# Altium footprint library PcbLib1.PcbLib: 329 footprints (part 6 of 21)
Each footprint in its own frame and in the unit in brackets; x right, y up, seen from the top. Pads: shape width x height; smd on the part's side, far side on the other; paste and mask are expansions set on the pad; w line width, h text height; cw(c..) or ccw(c..) is an arc to the next point about the centre after c.
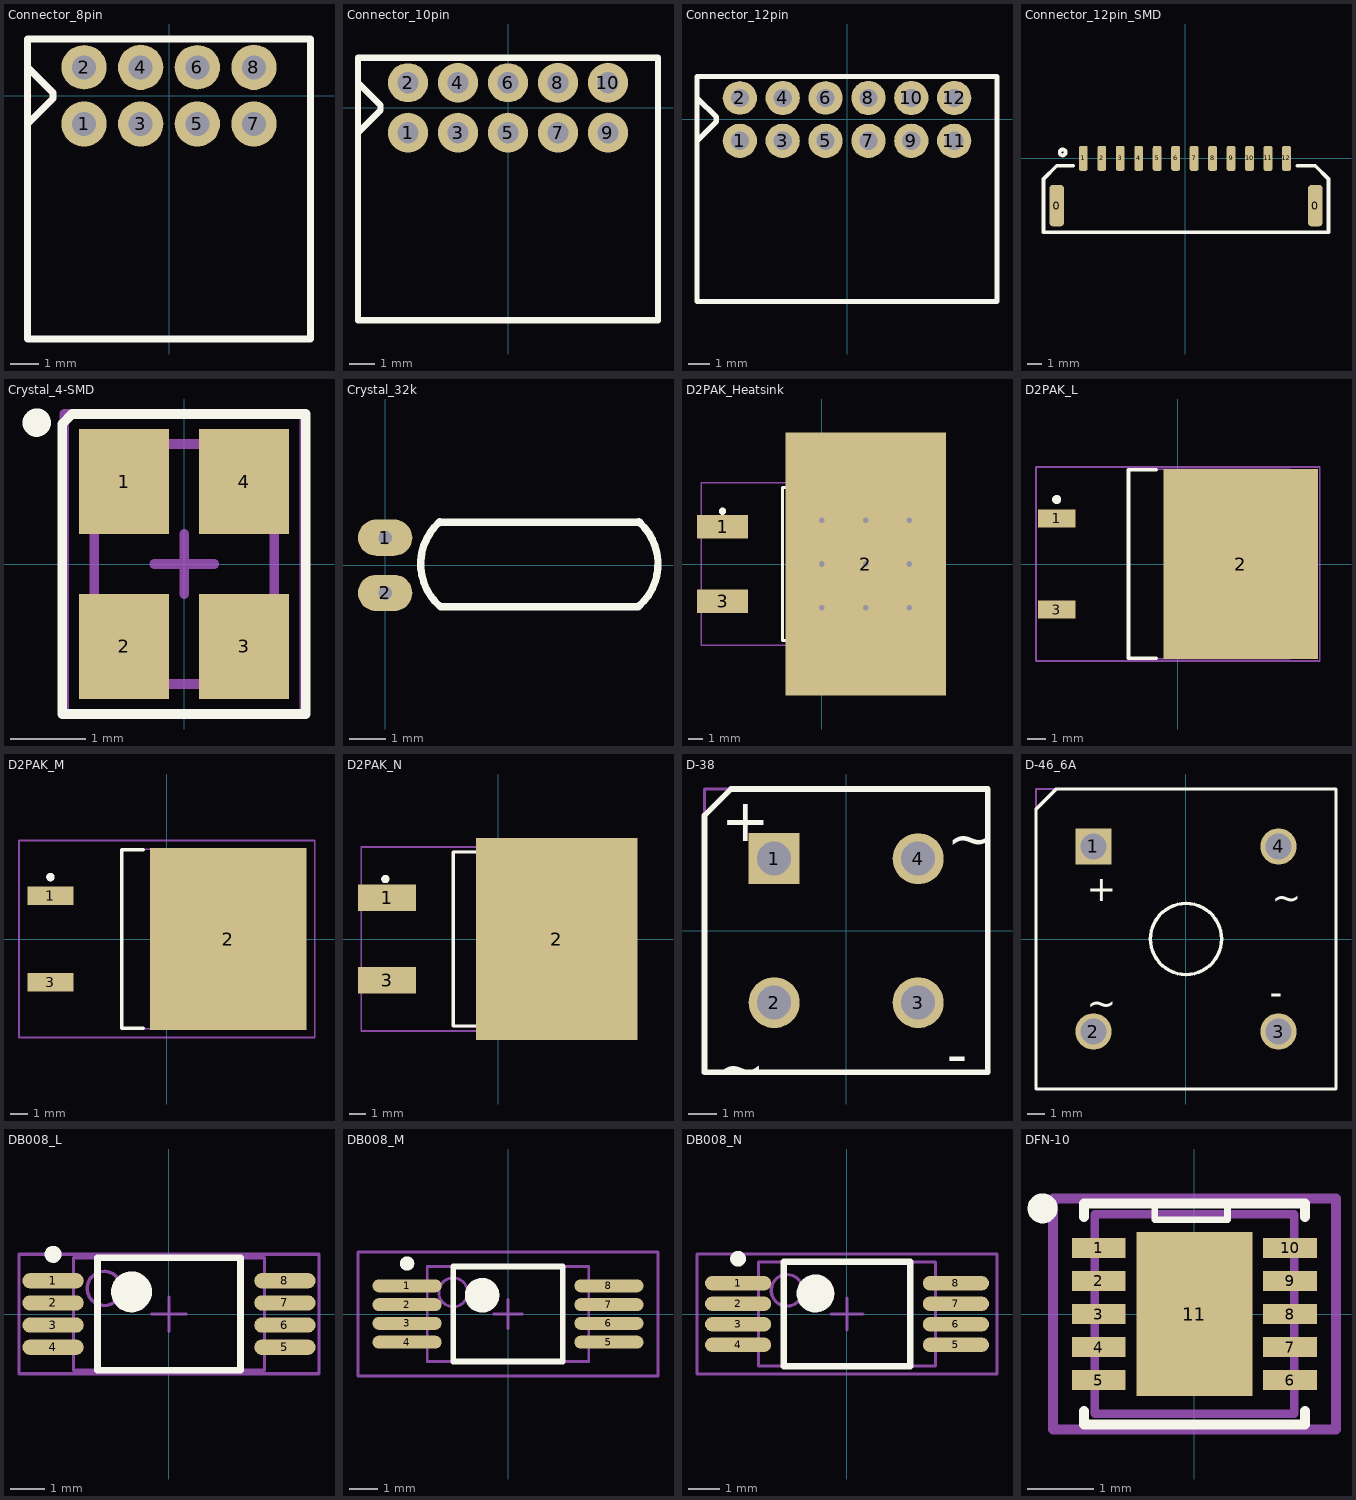
[diagram p5: the footprints below, top view; thin cyan lines are the x and y axes]

## Connector_8pin [mm] "CONN HEADER 18POS 2MM RT ANG TIN"
height 5
pads (8):
  round 1.6 hole 0.85: 1(-3,-1) 3(-1,-1) 4(-1,1) 5(1,-1) 7(3,-1) 8(3,1)
  oval 1.6x1.56 hole 0.85: 2(-3,1) 6(1,1)
Top Overlay:
  lines w0.254: -5,-1 -4.1,-0.1 -4.1,0.1 -4.95,0.95 ; -5,-8.6 5,-8.6 5,2 -5,2 -5,-8.6
3D body "DF11-8DP-2DS.STEP": height 5.08, standoff -2.92, extent -5.016,-8.737 5.016,1.3

## Connector_10pin [mm] "CONN HEADER 10POS 2MM RT ANG TIN"
height 5
pads (10):
  round 1.6 hole 0.85: 1(-4,-1) 3(-2,-1) 4(-2,1) 5(0,-1) 7(2,-1) 8(2,1) 9(4,-1) 10(4,1)
  oval 1.6x1.56 hole 0.85: 2(-4,1) 6(0,1)
Top Overlay:
  lines w0.254: -6,-1 -5.1,-0.1 -5.1,0.1 -5.95,0.95 ; -6,-8.5 -6,2 6,2 6,-8.5 -6,-8.5
3D body "DF11-10DP-2DS.STEP": height 6.27, standoff -1.76, extent -6.015,-8.728 6.015,1.3

## Connector_12pin [mm] "CONN HEADER 12POS 2MM RT ANG TIN"
height 5
pads (12):
  round 1.6 hole 0.85: 1(-5,-1) 3(-3,-1) 4(-3,1) 5(-1,-1) 7(1,-1) 8(1,1) 9(3,-1) 10(3,1) 11(5,-1) 12(5,1)
  oval 1.6x1.56 hole 0.85: 2(-5,1) 6(-1,1)
Top Overlay:
  lines w0.254: -7,-1 -6.1,-0.1 -6.1,0.1 -6.95,0.95 ; -7,-8.5 -7,2 7,2 7,-8.5 -7,-8.5
3D body "DF11-12DP-2DS.STEP": height 5.16, standoff -2.84, extent -7,-8.7 7,1.3

## Connector_12pin_SMD [mm] "CONN HEADER 12POS 1.25mm"
height 5
pads (14):
  rrect50% 1x2.8 smd: 0(-8.7,-3.2) 0(8.8,-3.2)
  rrect50% 0.6x1.7 smd: 1(-6.9,0) 2(-5.65,0) 3(-4.4,0) 4(-3.15,0) 5(-1.9,0) 6(-0.65,0) 7(0.6,0) 8(1.85,0) 9(3.1,0) 10(4.35,0) 11(5.6,0) 12(6.85,0)
Top Overlay:
  circle w0.254: c-8.3,0.4 r0.2
  lines w0.254: -7.6,-0.5 -8.7,-0.5 -9.6,-1.4 -9.6,-5 9.7,-5 9.7,-1.4 8.8,-0.5 7.6,-0.5

## Crystal_4-SMD [mm]
pads (4):
  rect 1.2x1.4 smd: 1(-0.8,1.1) 2(-0.8,-1.1) 3(0.8,-1.1) 4(0.8,1.1)
Top Overlay:
  circle w0.254: c-1.965,1.885 r0.063
  lines w0.127: -1.625,-2 -1.625,1.867 -1.492,2 1.625,2 1.625,-2 -1.625,-2
Mechanical 13:
  lines w0.127: -1.2,-1.6 1.2,-1.6 1.2,1.6 -1.2,1.6 -1.2,-1.6
Mechanical 15:
  lines w0.127: -0.4,0 0.4,0 ; 0,-0.4 0,0.4 ; -1.6,-2 1.6,-2 1.6,2 -1.6,2 -1.6,-2
3D body "User Library-Crystal_ECX-32.STEP": height 0.82, standoff 0, extent -1.25,-1.6 1.25,1.6

## Crystal_32k [mm] "Crystal, Thru-Hole; 2 Leads;"
height 2.1
pads (2):
  oval 1.5x1 hole 0.381: 1(0,0.762)
  oval 1.5x1 hole 0.381 mask+0.102: 2(0,-0.762)
Top Overlay:
  lines w0.2: 1.508,1.202 ccw(c2.53,0.036) 1.524,-1.143 6.985,-1.143 ccw(c5.979,0.036) 7.001,1.202 ; 1.562,1.188 7.023,1.188
3D body "Crystal_32k.STEP": height 2.05, standoff -1.95, extent -0.124,-1 7.016,1

## D2PAK_Heatsink [mm] "D2-PAK, 4-Leads, Body 8.8x10.4mm, Pitch 2.54mm, Lead Span 15.1mm, IPC Medium Density"
height 4.69
pads (3):
  rect 3.5x1.6 smd: 1(-6.8,2.54) 3(-6.8,-2.54)
  rect 11x18 smd: 2(3,0)
via 3,0 diameter 0.762 hole 0.381
via 0,0 diameter 0.762 hole 0.381
via 0,3 diameter 0.762 hole 0.381
via 0,-3 diameter 0.762 hole 0.381
via 6,-3 diameter 0.762 hole 0.381
via 6,3 diameter 0.762 hole 0.381
via 6,0 diameter 0.762 hole 0.381
via 3,3 diameter 0.762 hole 0.381
via 3,-3 diameter 0.762 hole 0.381
Top Overlay:
  circle w0.25: c-6.8,3.615 r0.125
  lines w0.2: -1.3,-5.25 -2.7,-5.25 -2.7,5.25 -1.3,5.25
Mechanical 13:
  lines w0.1: -2.7,-5.275 -2.7,5.275 6.3,5.275 6.3,-5.275 -2.7,-5.275
Mechanical 15:
  lines w0.1: -0.5,0 0.5,0 ; 0,-0.5 0,0.5 ; -8.25,-5.55 -8.25,5.55 8.25,5.55 8.25,-5.55 -8.25,-5.55
3D body "D2PAK.STEP": height 4.5, standoff 0, extent -7.79,-5 7.6,5.1
3D body "D2PAK_heatsink.STEP": height 10.38, standoff 0.18, extent -3.125,-13.109 9.875,13.109

## D2PAK_L [mm] "D2-PAK, 4-Leads, Body 8.8x10.4mm, Pitch 2.54mm, Lead Span 15.1mm, IPC High Density"
height 4.69
pads (3):
  rect 2.1x1 smd: 1(-6.75,2.54) 3(-6.75,-2.54)
  rect 8.6x10.6 smd: 2(3.5,0)
Top Overlay:
  circle w0.25: c-6.75,3.59 r0.125
  lines w0.2: -1.2,-5.25 -2.75,-5.25 -2.75,5.25 -1.2,5.25
Mechanical 13:
  lines w0.1: -2.75,-5.275 -2.75,5.275 6.25,5.275 6.25,-5.275 -2.75,-5.275
Mechanical 15:
  lines w0.1: -0.5,0 0.5,0 ; 0,-0.5 0,0.5 ; -7.9,-5.4 -7.9,5.4 7.9,5.4 7.9,-5.4 -7.9,-5.4
3D body: height 4.69, standoff 0, extent -2.75,-5.275 6.25,5.275

## D2PAK_M [mm] "D2-PAK, 4-Leads, Body 8.8x10.4mm, Pitch 2.54mm, Lead Span 15.1mm, IPC Low Density"
height 4.69
pads (3):
  rect 2.7x1.1 smd: 1(-6.85,2.54) 3(-6.85,-2.54)
  rect 9.2x10.7 smd: 2(3.6,0)
Top Overlay:
  circle w0.25: c-6.85,3.64 r0.125
  lines w0.2: -1.4,-5.25 -2.65,-5.25 -2.65,5.25 -1.4,5.25
Mechanical 13:
  lines w0.1: -2.65,-5.275 -2.65,5.275 6.35,5.275 6.35,-5.275 -2.65,-5.275
Mechanical 15:
  lines w0.1: -0.5,0 0.5,0 ; 0,-0.5 0,0.5 ; -8.7,-5.8 -8.7,5.8 8.7,5.8 8.7,-5.8 -8.7,-5.8
3D body: height 4.69, standoff 0, extent -2.65,-5.275 6.35,5.275

## D2PAK_N [mm] "D2-PAK, 4-Leads, Body 8.8x10.4mm, Pitch 2.54mm, Lead Span 15.1mm, IPC Medium Density"
height 4.69
pads (3):
  rect 3.5x1.6 smd: 1(-6.7,2.5) 3(-6.7,-2.5)
  rect 9.75x12.2 smd: 2(3.55,0)
Top Overlay:
  circle w0.25: c-6.8,3.615 r0.125
  lines w0.2: -1.3,-5.25 -2.7,-5.25 -2.7,5.25 -1.3,5.25
Mechanical 13:
  lines w0.1: -2.7,-5.275 6.3,-5.275 6.3,5.275 -2.7,5.275 -2.7,-5.275
Mechanical 15:
  lines w0.1: -0.5,0 0.5,0 ; 0,-0.5 0,0.5 ; -8.25,-5.55 8.25,-5.55 8.25,5.55 -8.25,5.55 -8.25,-5.55
3D body "D2PAK.STEP": height 4.5, standoff 0, extent -7.79,-5 7.6,5.1

## D-38 [mm] "Bridge Rectifier; 4 Terminals; Body 9.4 x 9.4 mm (typ); Pitch 5.08 mm"
height 9.91
pads (4):
  rect 1.8x1.8 hole 1.2: 1(-2.54,2.54)
  round 1.8 hole 1.2: 2(-2.54,-2.54) 3(2.54,-2.54) 4(2.54,2.54)
Top Overlay:
  lines w0.2: -5,-5 5,-5 5,5 -4.064,5 -5,4.064 -5,-5
  text "~" at 3.556,2.54 h1.5
  text "~" at -4.572,-5.588 h1.5
  text "-" at 3.556,-5.08 h1.5
  text "+" at -4.41,3.164 h1.5
Mechanical 13:
  lines w0.1: -5,-5 5,-5 5,5 -5,5 -5,-5
3D body: height 9.91, standoff 0, extent -5,-5 5,5

## D-46_6A [mm] "Bridge Rectifier; 4 Terminals; Body 16.8 x 16.8 mm (typ); Pitch 10.67 mm"
height 6.35
pads (4):
  rect 2.1x2.1 hole 1.5: 1(-5.335,5.335)
  round 2.1 hole 1.5: 2(-5.335,-5.335) 3(5.335,-5.335) 4(5.335,5.335)
Top Overlay:
  circle w0.2: c0,0 r2.05
  lines w0.2: -8.65,-8.65 8.65,-8.65 8.65,8.65 -7.474,8.65 -8.65,7.474 -8.65,-8.65
  text "~" at -5.723,-4.437 h1.5
  text "~" at 4.945,1.659 h1.5
  text "-" at 4.825,-3.809 h1.5
  text "+" at -5.723,2.167 h1.5
Mechanical 13:
  lines w0.1: -8.65,-8.65 -8.65,8.65 8.65,8.65 8.65,-8.65 -8.65,-8.65
3D body: height 6.35, standoff 0, extent -8.65,-8.65 8.65,8.65

## DB008_L [mm] "SOP, 8-Leads, Body 3x5.3mm, Pitch 0.65mm, IPC High Density"
height 2
pads (8):
  oval 1.8x0.45 smd: 1(-3.4,0.975) 2(-3.4,0.325) 3(-3.4,-0.325) 4(-3.4,-0.975) 5(3.4,-0.975) 6(3.4,-0.325) 7(3.4,0.325) 8(3.4,0.975)
Top Overlay:
  circle w0.25: c-3.4,1.75 r0.125
  circle w0.6: c-1.1,0.65 r0.3
  lines w0.2: -2.1,-1.65 -2.1,1.65 2.1,1.65 2.1,-1.65 -2.1,-1.65
Mechanical 13:
  circle w0.1: c-1.9,0.75 r0.5
  lines w0.1: -2.8,-1.65 -2.8,1.65 2.8,1.65 2.8,-1.65 -2.8,-1.65
Mechanical 15:
  lines w0.1: -0.5,0 0.5,0 ; 0,-0.5 0,0.5 ; -4.4,-1.75 -4.4,1.75 4.4,1.75 4.4,-1.75 -4.4,-1.75
3D body: height 2, standoff 0, extent -2.8,-1.65 2.8,1.65

## DB008_M [mm] "SOP, 8-Leads, Body 3x5.3mm, Pitch 0.65mm, IPC Low Density"
height 2
pads (8):
  oval 2.4x0.45 smd: 1(-3.5,0.975) 2(-3.5,0.325) 3(-3.5,-0.325) 4(-3.5,-0.975) 5(3.5,-0.975) 6(3.5,-0.325) 7(3.5,0.325) 8(3.5,0.975)
Top Overlay:
  circle w0.25: c-3.5,1.75 r0.125
  circle w0.6: c-0.9,0.65 r0.3
  lines w0.2: -1.9,-1.65 -1.9,1.65 1.9,1.65 1.9,-1.65 -1.9,-1.65
Mechanical 13:
  circle w0.1: c-1.9,0.75 r0.5
  lines w0.1: -2.8,-1.65 -2.8,1.65 2.8,1.65 2.8,-1.65 -2.8,-1.65
Mechanical 15:
  lines w0.1: -0.5,0 0.5,0 ; 0,-0.5 0,0.5 ; -5.2,-2.15 -5.2,2.15 5.2,2.15 5.2,-2.15 -5.2,-2.15
3D body: height 2, standoff 0, extent -2.8,-1.65 2.8,1.65

## DB008_N [mm] "SOP, 8-Leads, Body 3x5.3mm, Pitch 0.65mm, IPC Medium Density"
height 2
pads (8):
  oval 2.1x0.45 smd: 1(-3.45,0.975) 2(-3.45,0.325) 3(-3.45,-0.325) 4(-3.45,-0.975) 5(3.45,-0.975) 6(3.45,-0.325) 7(3.45,0.325) 8(3.45,0.975)
Top Overlay:
  circle w0.6: c-1,0.65 r0.3
  circle w0.25: c-3.45,1.75 r0.125
  lines w0.2: -2,-1.65 2,-1.65 2,1.65 -2,1.65 -2,-1.65
Mechanical 13:
  circle w0.1: c-1.9,0.75 r0.5
  lines w0.1: -2.8,-1.65 2.8,-1.65 2.8,1.65 -2.8,1.65 -2.8,-1.65
Mechanical 15:
  lines w0.1: -0.5,0 0.5,0 ; 0,-0.5 0,0.5 ; -4.75,-1.9 4.75,-1.9 4.75,1.9 -4.75,1.9 -4.75,-1.9
3D body: height 2, standoff 0, extent -2.8,-1.65 2.8,1.65

## DFN-10 [mil]
pads (11):
  rect 32x12 smd: 1(-57,39.37) 2(-57,19.68) 3(-57,0) 4(-57,-19.68) 5(-57,-39.37) 6(57,-39.37) 7(57,-19.68) 8(57,0) 9(57,19.68) 10(57,39.37)
  rect 69x98 smd: 11(0,0)
Top Overlay:
  circle w10: c-90.55,62.99 r3.94
  lines w3.94: -23.62,66 -23.62,56.25 19.68,56.25 19.68,66.93
  lines w5.98: -66,66 66,66
  lines w6: -66,-58 -66,-66 66,-66 66,-58 ; -66,58 -66,66 ; 66,58 66,66
Top Paste:
  region: -34.5,49 -34.5,-49 34.5,-49 34.5,49
Mechanical 1:
  lines w5: -59.38,-59.38 59.38,-59.38 59.38,59.38 -59.38,59.38 -59.38,-59.38
Mechanical 15:
  lines w5: -9.38,0 9.38,0 ; 0,-9.38 0,9.38
  lines w6: -84.38,-68.75 84.38,-68.75 84.38,68.75 -84.38,68.75 -84.38,-68.75
3D body "User Library-DFN-10.STEP": height 28.5, standoff -3, extent -59.05,-59.06 59.05,59.06